# Altium integrated library CH376S.IntLib: 1 symbol
Pins are listed as number, name and electrical type; pins without a type are passive.

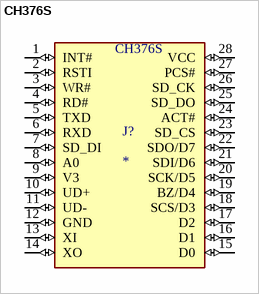
[diagram p0: symbol CH376S]

## CH376S
designator J?
File manage control chip. Small outline package of 28-pin; MF: WCH; MP: CH376S; SnapEDA_Link: https://www.snapeda.com/parts/CH376S/WCH/view-part/?ref=snap; Check_prices: https://www.snapeda.com/parts/CH376S/WCH/view-part/?ref=eda; Price: None; Value: *; Availability: Not in stock; Package: Package
footprint SOP28
pins: 1 INT# (io), 2 RSTI (io), 3 WR# (io), 4 RD# (io), 5 TXD (io), 6 RXD (io), 7 SD_DI (io), 8 A0 (io), 9 V3 (io), 10 UD+ (io), 11 UD- (io), 12 GND (io), 13 XI (io), 14 XO (io), 15 D0 (io), 16 D1 (io), 17 D2 (io), 18 SCS/D3 (io), 19 BZ/D4 (io), 20 SCK/D5 (io), 21 SDI/D6 (io), 22 SDO/D7 (io), 23 SD_CS (io), 24 ACT# (io), 25 SD_DO (io), 26 SD_CK (io), 27 PCS# (io), 28 VCC (io)